# EAGLE library part ML4425* (library fairchild-semic)
Sensorless BLDC Motor Controller Source: http://www.fairchildsemi.com/ds/ML/ML4425.pdf
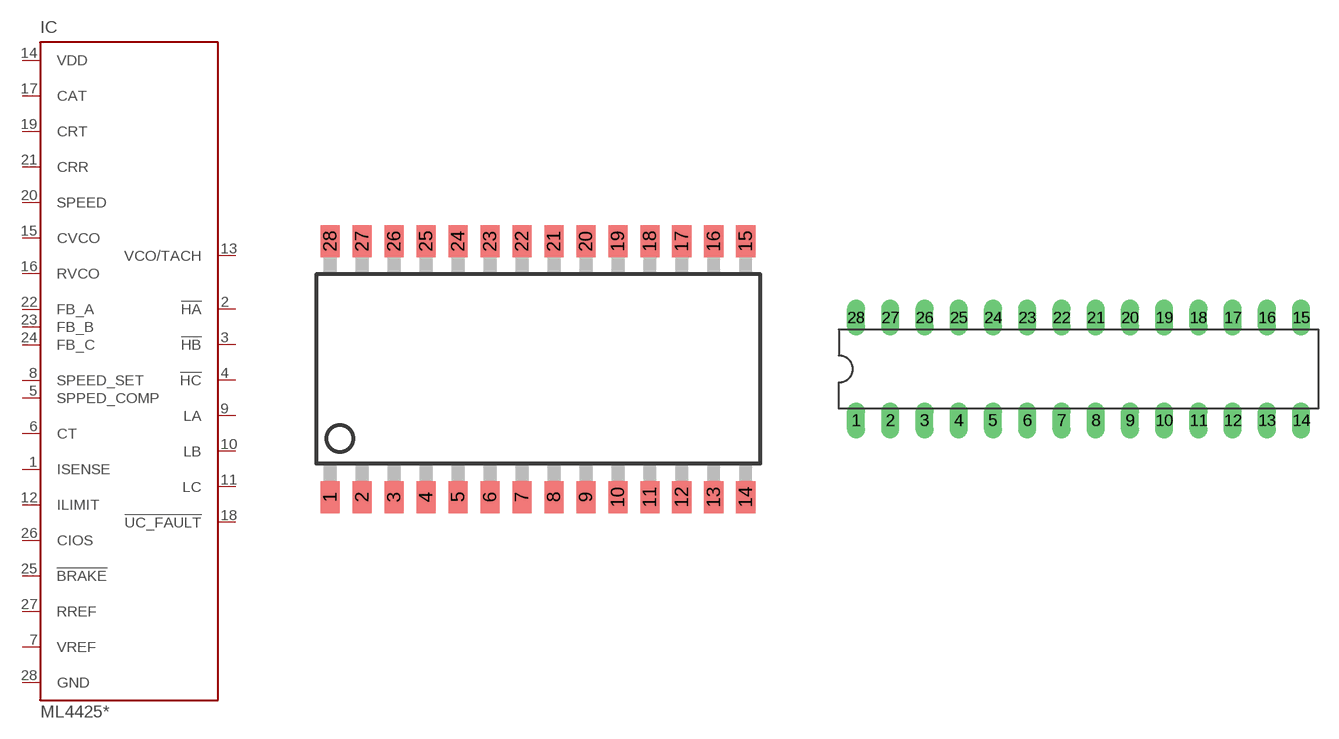
[diagram p0: symbol with the pads of SO-28W; footprints SO-28W, DIL28-3]

Designator prefix IC

## ML4425CS, ML4425IS  [SO-28W]
1  ISENSE  in
2  !HA  pwr
3  !HB  pwr
4  !HC  pwr
5  SPPED_COMP  in
6  CT  in
7  VREF  pwr
8  SPEED_SET  in
9  LA  pwr
10  LB  pwr
11  LC  pwr
12  ILIMIT  in
13  VCO/TACH  pwr
14  VDD  pwr
15  CVCO  pwr
16  RVCO  pwr
17  CAT  pwr
18  !UC_FAULT  pwr
19  CRT  pwr
20  SPEED  pwr
21  CRR  pwr
22  FB_A  in
23  FB_B  in
24  FB_C  in
25  !BRAKE  in
26  CIOS  in
27  RREF  pwr
28  GND  pwr

## ML4425CP, ML4425IP  [DIL28-3]
Pads as for SO-28W

## Footprint SO-28W (pad centres in mm)
Small Outline Wide Plastic Gull Wing 300-mil body, package type SO
smd 0.762 x 1.27: 1 -8.255,-5.08; 2 -6.985,-5.08; 3 -5.715,-5.08; 4 -4.445,-5.08; 5 -3.175,-5.08; 6 -1.905,-5.08; 7 -0.635,-5.08; 8 0.635,-5.08; 9 1.905,-5.08; 10 3.175,-5.08; 11 4.445,-5.08; 12 5.715,-5.08; 13 6.985,-5.08; 14 8.255,-5.08; 15 8.255,5.08; 16 6.985,5.08; 17 5.715,5.08; 18 4.445,5.08; 19 3.175,5.08; 20 1.905,5.08; 21 0.635,5.08; 22 -0.635,5.08; 23 -1.905,5.08; 24 -3.175,5.08; 25 -4.445,5.08; 26 -5.715,5.08; 27 -6.985,5.08; 28 -8.255,5.08

## Footprint DIL28-3 (pad centres in mm)
Dual In Line Package Small 28-Pin Narrow PDIP
drill 0.813 long: 1 -16.51,-3.81; 2 -13.97,-3.81; 3 -11.43,-3.81; 4 -8.89,-3.81; 5 -6.35,-3.81; 6 -3.81,-3.81; 7 -1.27,-3.81; 8 1.27,-3.81; 9 3.81,-3.81; 10 6.35,-3.81; 11 8.89,-3.81; 12 11.43,-3.81; 13 13.97,-3.81; 14 16.51,-3.81; 15 16.51,3.81; 16 13.97,3.81; 17 11.43,3.81; 18 8.89,3.81; 19 6.35,3.81; 20 3.81,3.81; 21 1.27,3.81; 22 -1.27,3.81; 23 -3.81,3.81; 24 -6.35,3.81; 25 -8.89,3.81; 26 -11.43,3.81; 27 -13.97,3.81; 28 -16.51,3.81